# Altium footprint library WE-CBF.PcbLib: 20 footprints (part 1 of 2)
Each footprint in its own frame and in the unit in brackets; x right, y up, seen from the top. Pads: shape width x height; smd on the part's side, far side on the other; paste and mask are expansions set on the pad; w line width, h text height; cw(c..) or ccw(c..) is an arc to the next point about the centre after c.
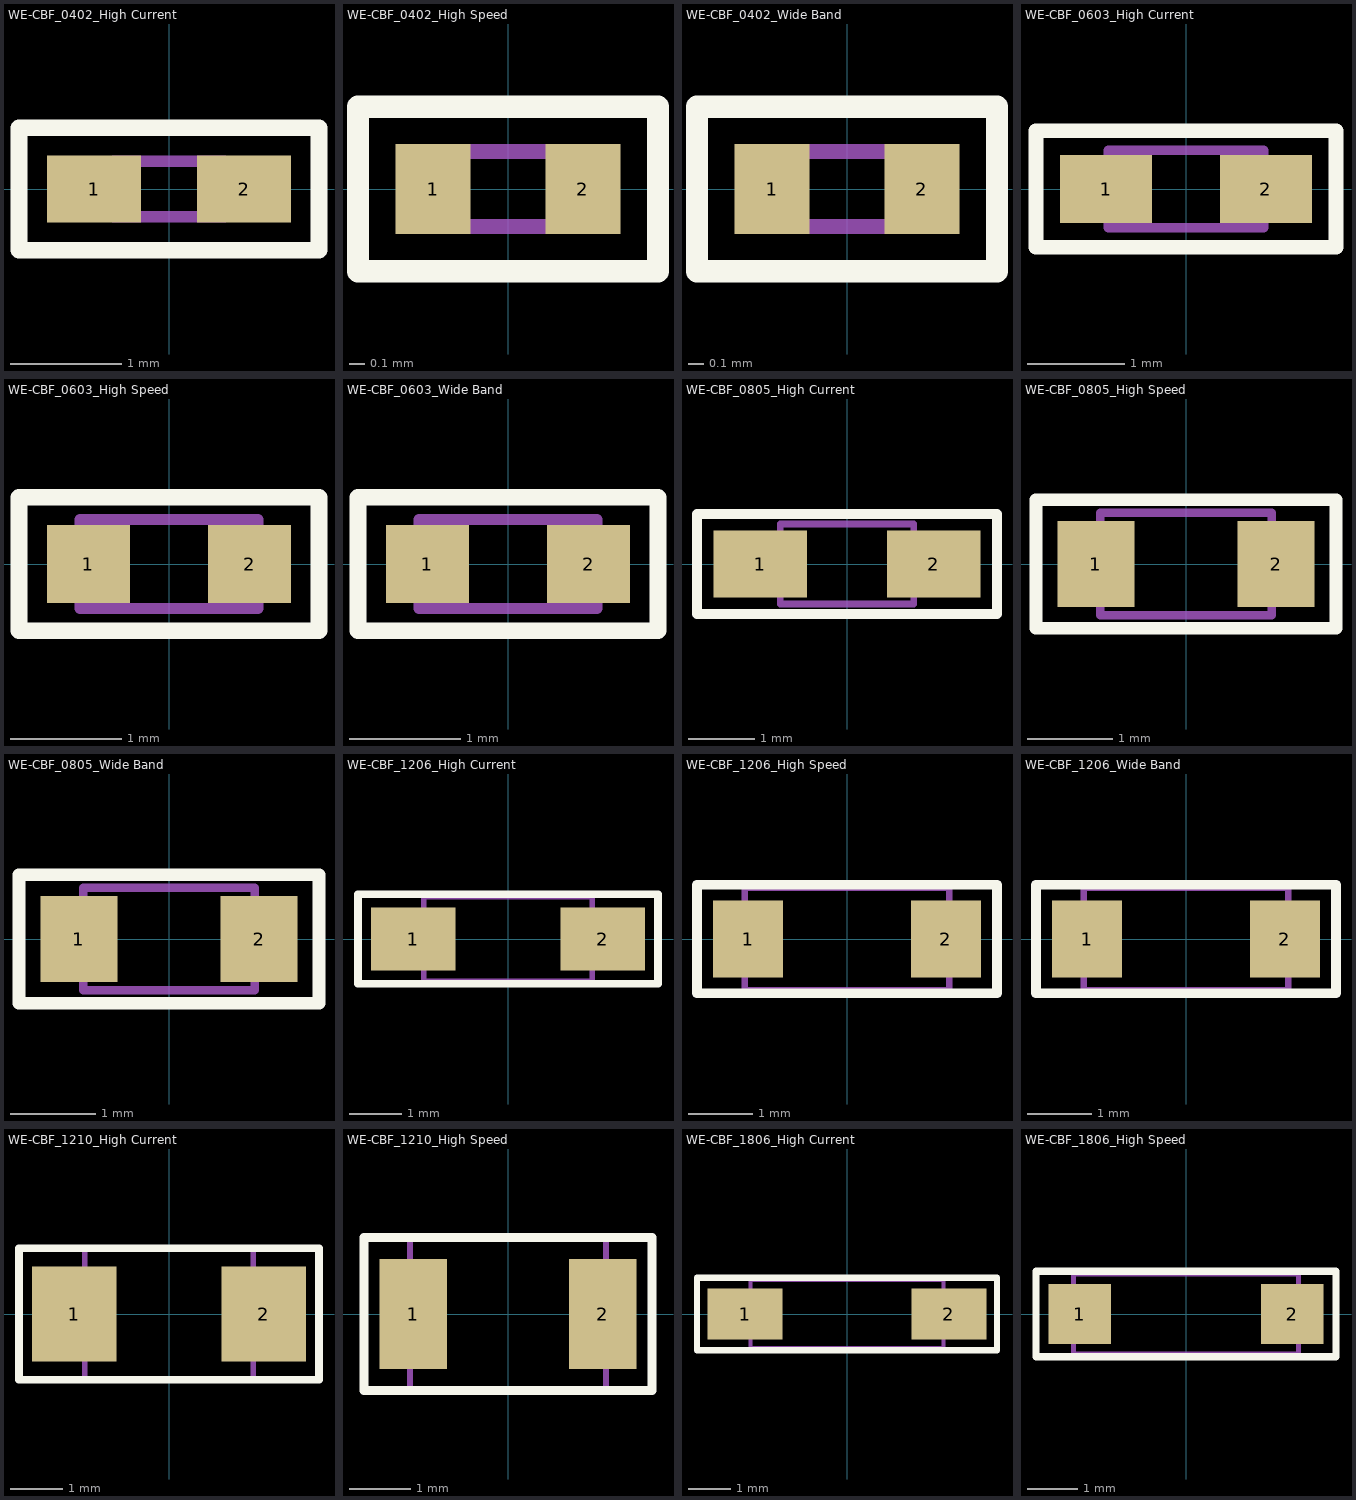
[diagram p0: the footprints below, top view; thin cyan lines are the x and y axes]

## WE-CBF_0402_High Current [mm] "SMD EMI Suppression Ferrite  Bead, body 1.0mmx0.5mm"
height 0.5
pads (2):
  rect 0.85x0.6 smd: 1(-0.675,0) 2(0.675,0)
Top Overlay:
  lines w0.15: -1.35,-0.55 1.35,-0.55 1.35,0.55 -1.35,0.55 -1.35,-0.55
Mechanical 15:
  lines w0.1: -0.5,-0.25 -0.5,0.25 0.5,0.25 0.5,-0.25 -0.5,-0.25
3D body "WE-CBF_0402_CBF.stp": height 0.5, standoff 0, extent -0.5,-0.25 0.5,0.25

## WE-CBF_0402_High Speed [mm] "SMD EMI Suppression Ferrite  Bead, body 1.0mmx0.5mm"
height 0.5
pads (2):
  rect 0.5x0.6 smd: 1(-0.5,0) 2(0.5,0)
Top Overlay:
  lines w0.15: -1,-0.55 1,-0.55 1,0.55 -1,0.55 -1,-0.55
Mechanical 15:
  lines w0.1: -0.5,-0.25 -0.5,0.25 0.5,0.25 0.5,-0.25 -0.5,-0.25
3D body "WE-CBF_0402_CBF.stp": height 0.5, standoff 0, extent -0.5,-0.25 0.5,0.25

## WE-CBF_0402_Wide Band [mm] "SMD EMI Suppression Ferrite  Bead, body 1.0mmx0.5mm"
height 0.5
pads (2):
  rect 0.5x0.6 smd: 1(-0.5,0) 2(0.5,0)
Top Overlay:
  lines w0.15: -1,-0.55 -1,0.55 1,0.55 1,-0.55 -1,-0.55
Mechanical 15:
  lines w0.1: -0.5,-0.25 0.5,-0.25 0.5,0.25 -0.5,0.25 -0.5,-0.25
3D body "WE-CBF_0402_CBF.stp": height 0.5, standoff 0, extent -0.5,-0.25 0.5,0.25

## WE-CBF_0603_High Current [mm] "SMD EMI Suppression Ferrite  Bead, body 1.6mmx0.8mm"
height 0.8
pads (2):
  rect 0.95x0.7 smd: 1(-0.825,0) 2(0.825,0)
Top Overlay:
  lines w0.15: -1.55,-0.6 -1.55,0.6 1.55,0.6 1.55,-0.6 -1.55,-0.6
Mechanical 15:
  lines w0.1: -0.8,-0.4 -0.8,0.4 0.8,0.4 0.8,-0.4 -0.8,-0.4
3D body "WE-CBF_0603_CBF.stp": height 0.8, standoff 0, extent -0.8,-0.4 0.8,0.4

## WE-CBF_0603_High Speed [mm] "SMD EMI Suppression Ferrite  Bead, body 1.6mmx0.8mm"
height 0.8
pads (2):
  rect 0.75x0.7 smd: 1(-0.725,0) 2(0.725,0)
Top Overlay:
  lines w0.15: -1.35,-0.6 -1.35,0.6 1.35,0.6 1.35,-0.6 -1.35,-0.6
Mechanical 15:
  lines w0.1: -0.8,-0.4 -0.8,0.4 0.8,0.4 0.8,-0.4 -0.8,-0.4
3D body "WE-CBF_0603_CBF.stp": height 0.8, standoff 0, extent -0.8,-0.4 0.8,0.4

## WE-CBF_0603_Wide Band [mm] "SMD EMI Suppression Ferrite  Bead, body 1.6mmx0.8mm"
height 0.8
pads (2):
  rect 0.75x0.7 smd: 1(-0.725,0) 2(0.725,0)
Top Overlay:
  lines w0.15: -1.35,-0.6 -1.35,0.6 1.35,0.6 1.35,-0.6 -1.35,-0.6
Mechanical 15:
  lines w0.1: -0.8,-0.4 -0.8,0.4 0.8,0.4 0.8,-0.4 -0.8,-0.4
3D body "WE-CBF_0603_CBF.stp": height 0.8, standoff 0, extent -0.8,-0.4 0.8,0.4

## WE-CBF_0805_High Current [mm] "SMD EMI Suppression Ferrite  Bead, body 2.0mmx1.2mm"
height 0.9
pads (2):
  rect 1.4x1 smd: 1(-1.3,0) 2(1.3,0)
Top Overlay:
  lines w0.15: -2.25,-0.75 -2.25,0.75 2.25,0.75 2.25,-0.75 -2.25,-0.75
Mechanical 15:
  lines w0.1: -1,-0.6 -1,0.6 1,0.6 1,-0.6 -1,-0.6
3D body "WE-CBF_0805_CBF.stp": height 0.93, standoff 0.03, extent -1,-0.6 1,0.6

## WE-CBF_0805_High Speed [mm] "SMD EMI Suppression Ferrite  Bead, body 2.0mmx1.2mm"
height 0.9
pads (2):
  rect 0.9x1 smd: 1(-1.05,0) 2(1.05,0)
Top Overlay:
  lines w0.15: -1.75,-0.75 1.75,-0.75 1.75,0.75 -1.75,0.75 -1.75,-0.75
Mechanical 15:
  lines w0.1: -1,-0.6 1,-0.6 1,0.6 -1,0.6 -1,-0.6
3D body "WE-CBF_0805_CBF.stp": height 0.93, standoff 0.03, extent -1,-0.6 1,0.6

## WE-CBF_0805_Wide Band [mm] "SMD EMI Suppression Ferrite  Bead, body 2.0mmx1.2mm"
height 0.9
pads (2):
  rect 0.9x1 smd: 1(-1.05,0) 2(1.05,0)
Top Overlay:
  lines w0.15: -1.75,-0.75 1.75,-0.75 1.75,0.75 -1.75,0.75 -1.75,-0.75
Mechanical 15:
  lines w0.1: -1,-0.6 1,-0.6 1,0.6 -1,0.6 -1,-0.6
3D body "WE-CBF_0805_CBF.stp": height 0.93, standoff 0.03, extent -1,-0.6 1,0.6

## WE-CBF_1206_High Current [mm] "SMD EMI Suppression Ferrite  Bead, body 3.2mmx1.6mm"
height 1.1
pads (2):
  rect 1.6x1.2 smd: 1(-1.8,0) 2(1.8,0)
Top Overlay:
  lines w0.15: -2.85,-0.85 -2.85,0.85 2.85,0.85 2.85,-0.85 -2.85,-0.85
Mechanical 15:
  lines w0.1: -1.6,-0.8 -1.6,0.8 1.6,0.8 1.6,-0.8 -1.6,-0.8
3D body "WE-CBF_1206_CBF.stp": height 1.13, standoff 0.03, extent -1.6,-0.8 1.6,0.8

## WE-CBF_1206_High Speed [mm] "SMD EMI Suppression Ferrite  Bead, body 3.2mmx1.6mm"
height 1.1
pads (2):
  rect 1.1x1.2 smd: 1(-1.55,0) 2(1.55,0)
Top Overlay:
  lines w0.15: -2.35,-0.85 2.35,-0.85 2.35,0.85 -2.35,0.85 -2.35,-0.85
Mechanical 15:
  lines w0.1: -1.6,-0.8 1.6,-0.8 1.6,0.8 -1.6,0.8 -1.6,-0.8
3D body "WE-CBF_1206_CBF.stp": height 1.13, standoff 0.03, extent -1.6,-0.8 1.6,0.8

## WE-CBF_1206_Wide Band [mm] "SMD EMI Suppression Ferrite  Bead, body 3.2mmx1.6mm"
height 1.1
pads (2):
  rect 1.1x1.2 smd: 1(-1.55,0) 2(1.55,0)
Top Overlay:
  lines w0.15: -2.35,-0.85 -2.35,0.85 2.35,0.85 2.35,-0.85 -2.35,-0.85
Mechanical 15:
  lines w0.1: -1.6,-0.8 -1.6,0.8 1.6,0.8 1.6,-0.8 -1.6,-0.8
3D body "WE-CBF_1206_CBF.stp": height 1.13, standoff 0.03, extent -1.6,-0.8 1.6,0.8

## WE-CBF_1210_High Current [mm] "SMD EMI Suppression Ferrite  Bead, body 3.2mmx2.5mm"
height 1.3
pads (2):
  rect 1.6x1.8 smd: 1(-1.8,0) 2(1.8,0)
Top Overlay:
  lines w0.15: -2.85,-1.25 -2.85,1.25 2.85,1.25 2.85,-1.25 -2.85,-1.25
Mechanical 15:
  lines w0.1: -1.6,-1.25 -1.6,1.25 1.6,1.25 1.6,-1.25 -1.6,-1.25
3D body "WE-CBF_1210_CBF.stp": height 1.34, standoff 0.04, extent -1.6,-1.25 1.6,1.25

## WE-CBF_1210_High Speed [mm] "SMD EMI Suppression Ferrite  Bead, body 3.2mmx2.5mm"
height 1.3
pads (2):
  rect 1.1x1.8 smd: 1(-1.55,0) 2(1.55,0)
Top Overlay:
  lines w0.15: -2.35,-1.25 -2.35,1.25 2.35,1.25 2.35,-1.25 -2.35,-1.25
Mechanical 15:
  lines w0.1: -1.6,-1.25 -1.6,1.25 1.6,1.25 1.6,-1.25 -1.6,-1.25
3D body "WE-CBF_1210_CBF.stp": height 1.34, standoff 0.04, extent -1.6,-1.25 1.6,1.25

## WE-CBF_1806_High Current [mm] "SMD EMI Suppression Ferrite  Bead, body 4.5mmx1.6mm"
height 1.6
pads (2):
  rect 1.75x1.2 smd: 1(-2.375,0) 2(2.375,0)
Top Overlay:
  lines w0.15: -3.5,-0.85 -3.5,0.85 3.5,0.85 3.5,-0.85 -3.5,-0.85
Mechanical 15:
  lines w0.1: -2.25,-0.8 -2.25,0.8 2.25,0.8 2.25,-0.8 -2.25,-0.8
3D body "WE-CBF_1806_CBF.stp": height 1.63, standoff 0.03, extent -2.25,-0.8 2.25,0.8

## WE-CBF_1806_High Speed [mm] "SMD EMI Suppression Ferrite  Bead, body 4.5mmx1.6mm"
height 1.6
pads (2):
  rect 1.25x1.2 smd: 1(-2.125,0) 2(2.125,0)
Top Overlay:
  lines w0.15: -3,-0.85 -3,0.85 3,0.85 3,-0.85 -3,-0.85
Mechanical 15:
  lines w0.1: -2.25,-0.8 -2.25,0.8 2.25,0.8 2.25,-0.8 -2.25,-0.8
3D body "WE-CBF_1806_CBF.stp": height 1.63, standoff 0.03, extent -2.25,-0.8 2.25,0.8